# Altium schematic symbol library PCB_LSH-100.SchLib: 1 symbol
Pins are listed as number, name and electrical type; pins without a type are passive.

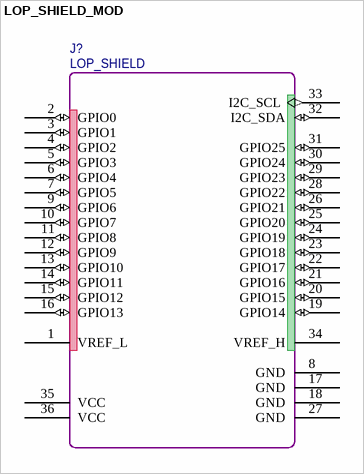
[diagram p0: symbol LOP_SHIELD_MOD]

## LOP_SHIELD_MOD
designator J?, comment LOP_SHIELD
Lophilo Shield Module Slot; Vendor: 0; PinCountHole: 36; Designer: shyul; Value: LOP_SHIELD; PartNumber: LOP_SHIELD; Version: 1.0; VersionDate: 03-19-2012; PinCountSMD: 0; SerialNumber: 0; Publisher: Cowin; PCBMarker: LOP_SHIELD
footprint LOP_SHIELD_MOD (Footprint not found)
pins: 1 VREF_L, 2 GPIO0 (io), 3 GPIO1 (io), 4 GPIO2 (io), 5 GPIO3 (io), 6 GPIO4 (io), 7 GPIO5 (io), 8 GND, 9 GPIO6 (io), 10 GPIO7 (io), 11 GPIO8 (io), 12 GPIO9 (io), 13 GPIO10 (io), 14 GPIO11 (io), 15 GPIO12 (io), 16 GPIO13 (io), 17 GND, 18 GND, 19 GPIO14 (io), 20 GPIO15 (io), 21 GPIO16 (io), 22 GPIO17 (io), 23 GPIO18 (io), 24 GPIO19 (io), 25 GPIO20 (io), 26 GPIO21 (io), 27 GND, 28 GPIO22 (io), 29 GPIO23 (io), 30 GPIO24 (io), 31 GPIO25 (io), 32 I2C_SDA (io), 33 I2C_SCL (out), 34 VREF_H, 35 VCC (power), 36 VCC (power)
2 alternate drawings of the same symbol